# EAGLE library part VREG_TO263-5 (library microbuilder)
TO263-5 Linear Voltage Regulators LD29300xx - 3A LDO (Vf: 0.4V@3A, 0.2V@1A) - Digikey: 3.3V - 497-3475-1-ND LD29300P2MTR - 3A LDO Adjustable - Digikey: 497-7780-1-ND, Mouser: 511-LD29300P2MTR
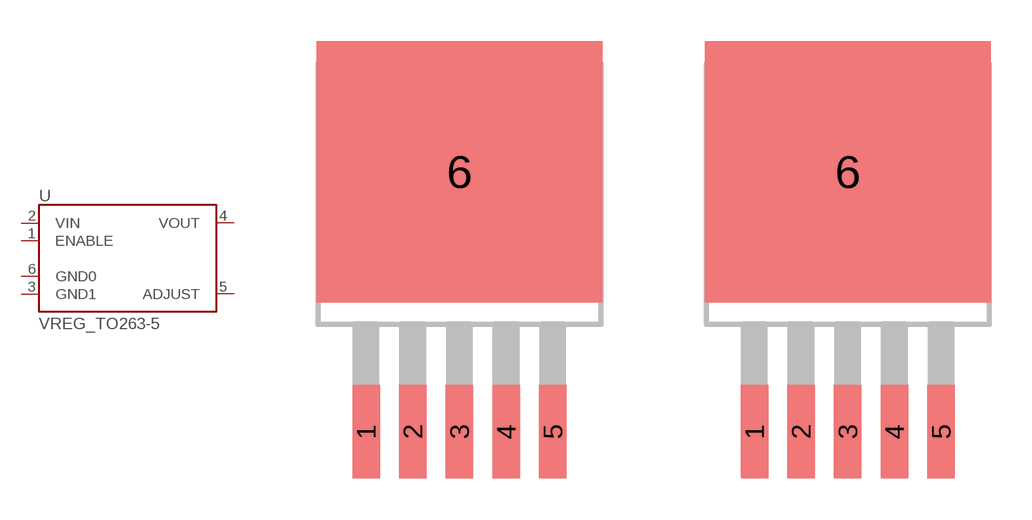
[diagram p96: symbol with the pads of TO263-5; footprints TO263-5, TO263-5_NOPASTE]

Designator prefix U

## VREG_TO263-5  [TO263-5]
1  ENABLE
2  VIN
3  GND1
4  VOUT
5  ADJUST
6  GND0

## VREG_TO263-5NOPASTE  [TO263-5_NOPASTE]
Pads as for TO263-5

## Footprint TO263-5 (pad centres in mm)
Warning: Part outline is approximative
smd 1 x 3.4: 1 -3.4,-7.875; 2 -1.7,-7.875; 3 0,-7.875; 4 1.7,-7.875; 5 3.4,-7.875
smd 10.414 x 9.525: 6 0,1.595

## Footprint TO263-5_NOPASTE (pad centres in mm)
smd 1 x 3.4: 1 -3.4,-9.145; 2 -1.7,-9.145; 3 0,-9.145; 4 1.7,-9.145; 5 3.4,-9.145
smd 10.414 x 9.525: 6 0,0.325